# EAGLE library part M20-7821642 (library M20-7821642)
2.54mm (0.1") Pitch SIL Vertical Throughboard Socket Assembly, selective gold + tin, 16 contacts Source: Datasheet <https://cdn.harwin.com/pdfs/M20-782.pdf>
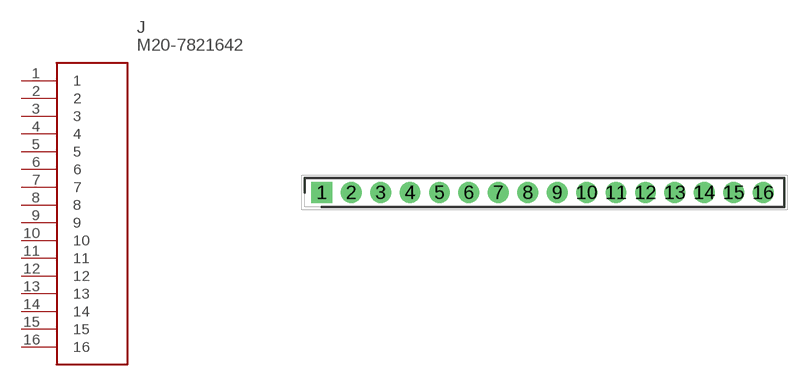
[diagram p0: symbol with the pads of RHDR16W70P0X254_1X16_4104X250X; footprint RHDR16W70P0X254_1X16_4104X250X]

Designator prefix J

## M20-7821642 (Description: 2.54mm (0.1") Pitch SIL Vertical Throughboard Socket Assembly, selective gold + tin, 16 contacts; Height: 8.65mm; Manufacturer_Name: Harwin; Manufacturer_Part_Number: M20-7821642; Mouser_Part_Number: 855-M20-7821642; Mouser_Price-Stock: https://www.mouser.co.uk/ProductDetail/Harwin/M20-7821642?qs=ulE8k0yEMYYHOwsI6S7TGA%3D%3D)  [RHDR16W70P0X254_1X16_4104X250X]
1  1
2  2
3  3
4  4
5  5
6  6
7  7
8  8
9  9
10  10
11  11
12  12
13  13
14  14
15  15
16  16

## Footprint RHDR16W70P0X254_1X16_4104X250X (pad centres in mm)
M20-7821642
drill 1.2 pad 1.8 square: 1 0,0
drill 1.2 pad 1.8: 2 2.54,0; 3 5.08,0; 4 7.62,0; 5 10.16,0; 6 12.7,0; 7 15.24,0; 8 17.78,0; 9 20.32,0; 10 22.86,0; 11 25.4,0; 12 27.94,0; 13 30.48,0; 14 33.02,0; 15 35.56,0; 16 38.1,0